# Altium schematic symbol library Arduino_Due.SCHLIB: 57 symbols
Pins are listed as number, name and electrical type; pins without a type are passive.

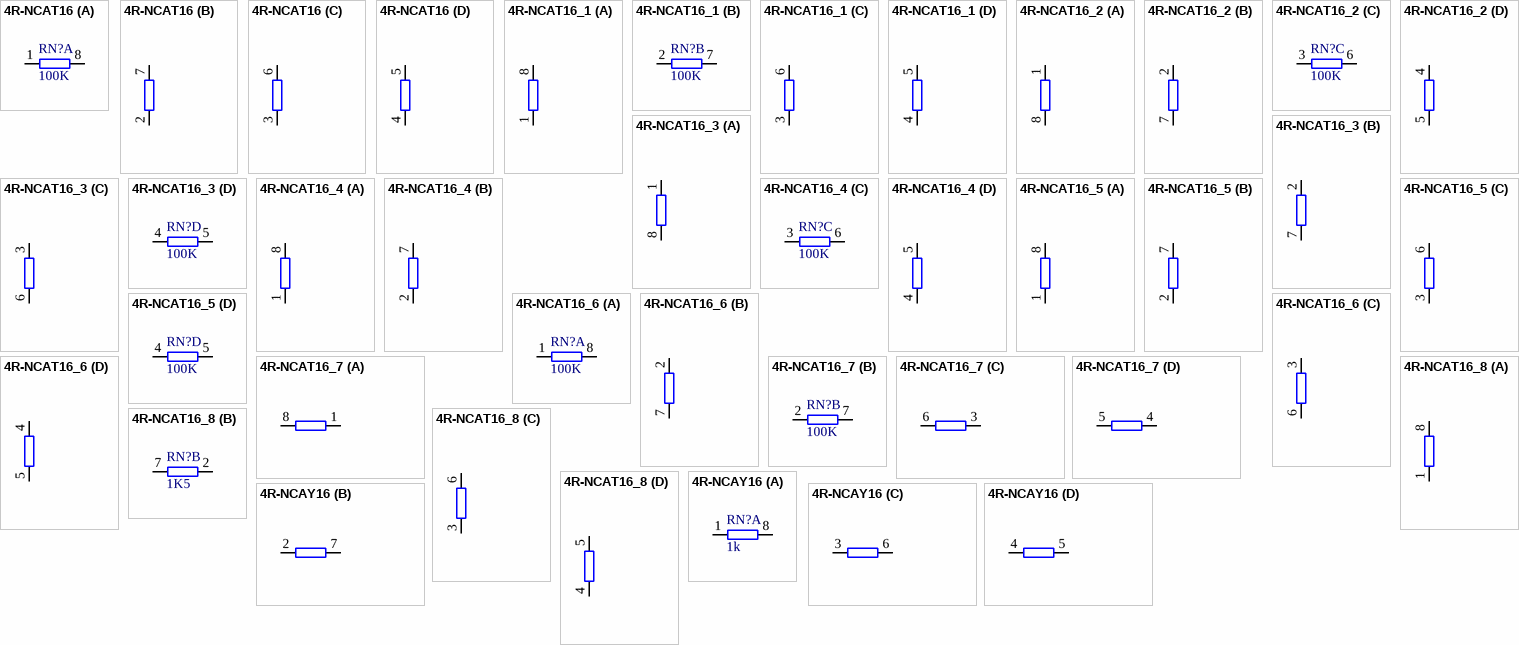
[diagram p0: symbols 4R-NCAT16 to 4R-NCAY16]

## 4R-NCAT16
designator RN?, comment 100K
footprint CAT16 (BOURNS Chip Resistor Array)
part A pins: 1, 8 2
part B pins: 2 1, 7 2
part C pins: 3 1, 6 2
part D pins: 4 1, 5 2

## 4R-NCAT16_1
designator RN?, comment 100K
footprint CAT16 (BOURNS Chip Resistor Array)
part A pins: 1, 8 2
part B pins: 2 1, 7 2
part C pins: 3 1, 6 2
part D pins: 4 1, 5 2

## 4R-NCAT16_2
designator RN?, comment 100K
footprint CAT16 (BOURNS Chip Resistor Array)
part A pins: 1, 8 2
part B pins: 2 1, 7 2
part C pins: 3 1, 6 2
part D pins: 4 1, 5 2

## 4R-NCAT16_3
designator RN?, comment 100K
footprint CAT16 (BOURNS Chip Resistor Array)
part A pins: 1, 8 2
part B pins: 2 1, 7 2
part C pins: 3 1, 6 2
part D pins: 4 1, 5 2

## 4R-NCAT16_4
designator RN?, comment 100K
footprint CAT16 (BOURNS Chip Resistor Array)
part A pins: 1, 8 2
part B pins: 2 1, 7 2
part C pins: 3 1, 6 2
part D pins: 4 1, 5 2

## 4R-NCAT16_5
designator RN?, comment 100K
footprint CAT16 (BOURNS Chip Resistor Array)
part A pins: 1, 8 2
part B pins: 2 1, 7 2
part C pins: 3 1, 6 2
part D pins: 4 1, 5 2

## 4R-NCAT16_6
designator RN?, comment 100K
footprint CAT16 (BOURNS Chip Resistor Array)
part A pins: 1, 8 2
part B pins: 2 1, 7 2
part C pins: 3 1, 6 2
part D pins: 4 1, 5 2

## 4R-NCAT16_7
designator RN?, comment 100K
footprint CAT16 (BOURNS Chip Resistor Array)
part A pins: 1, 8 2
part B pins: 2 1, 7 2
part C pins: 3 1, 6 2
part D pins: 4 1, 5 2

## 4R-NCAT16_8
designator RN?, comment 1K5
footprint CAT16 (BOURNS Chip Resistor Array)
part A pins: 1, 8 2
part B pins: 2 1, 7 2
part C pins: 3 1, 6 2
part D pins: 4 1, 5 2

## 4R-NCAY16
designator RN?, comment 1k
footprint CAY16 (BOURNS Chip Resistor Array)
part A pins: 1, 8 2
part B pins: 2 1, 7 2
part C pins: 3 1, 6 2
part D pins: 4 1, 5 2

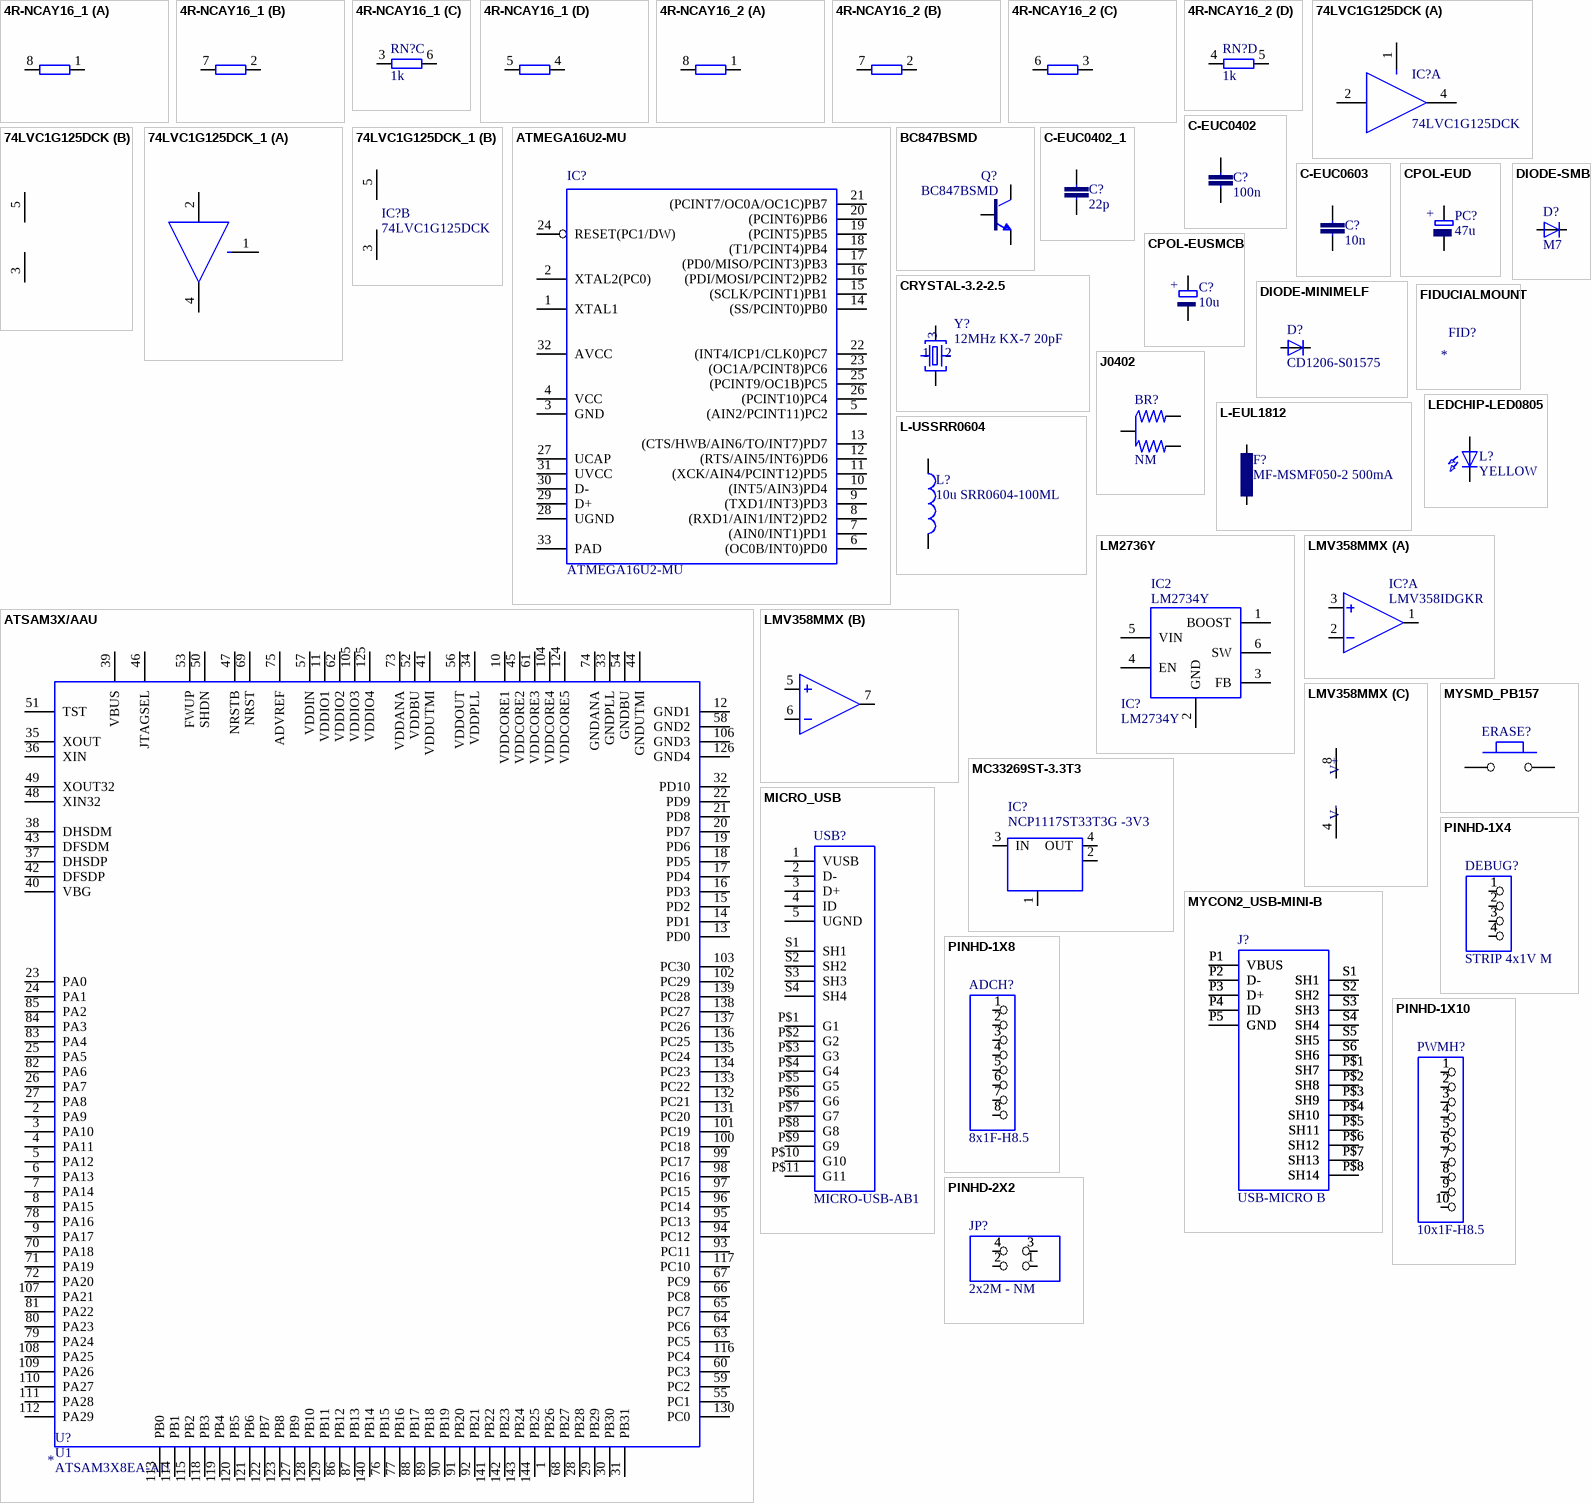
[diagram p1: symbols 4R-NCAY16_1 to PINHD-2X2]

## 4R-NCAY16_1
designator RN?, comment 1k
footprint CAY16 (BOURNS Chip Resistor Array)
part A pins: 1, 8 2
part B pins: 2 1, 7 2
part C pins: 3 1, 6 2
part D pins: 4 1, 5 2

## 4R-NCAY16_2
designator RN?, comment 1k
footprint CAY16 (BOURNS Chip Resistor Array)
part A pins: 1, 8 2
part B pins: 2 1, 7 2
part C pins: 3 1, 6 2
part D pins: 4 1, 5 2

## 74LVC1G125DCK
designator IC?
footprint SC70-5 (SMT SC70-5)
part A pins: 1 OE, 2 I, 4 O
part B pins: 3 GND, 5 VCC

## 74LVC1G125DCK_1
designator IC?, comment 74LVC1G125DCK
footprint SC70-5 (SMT SC70-5)
part A pins: 1 OE, 2 I, 4 O
part B pins: 3 GND, 5 VCC

## ATMEGA16U2-MU
designator IC?
footprint MLF32 (mlf-32)
pins: 1 XTAL1, 2 XTAL2(PC0), 3 GND, 4 VCC, 5 (AIN2/PCINT11)PC2, 6 (OC0B/INT0)PD0, 7 (AIN0/INT1)PD1, 8 (RXD1/AIN1/INT2)PD2, 9 (TXD1/INT3)PD3, 10 (INT5/AIN3)PD4, 11 (XCK/AIN4/PCINT12)PD5, 12 (RTS/AIN5/INT6)PD6, 13 (CTS/HWB/AIN6/TO/INT7)PD7, 14 (SS/PCINT0)PB0, 15 (SCLK/PCINT1)PB1, 16 (PDI/MOSI/PCINT2)PB2, 17 (PD0/MISO/PCINT3)PB3, 18 (T1/PCINT4)PB4, 19 (PCINT5)PB5, 20 (PCINT6)PB6, 21 (PCINT7/OC0A/OC1C)PB7, 22 (INT4/ICP1/CLK0)PC7, 23 (OC1A/PCINT8)PC6, 24 RESET(PC1/DW), 25 (PCINT9/OC1B)PC5, 26 (PCINT10)PC4, 27 UCAP, 28 UGND, 29 D+, 30 D-, 31 UVCC, 32 AVCC, 33 PAD

## ATSAM3X/AAU
designator U?
footprint LQFP144 (QFP144)
pins: 1 PB26, 2 PA9, 3 PA10, 4 PA11, 5 PA12, 6 PA13, 7 PA14, 8 PA15, 9 PA17, 10 VDDCORE1, 11 VDDIO1, 12 GND1, 13 PD0, 14 PD1, 15 PD2, 16 PD3, 17 PD4, 18 PD5, 19 PD6, 20 PD7, 21 PD8, 22 PD9, 23 PA0, 24 PA1, 25 PA5, 26 PA7, 27 PA8, 28 PB28, 29 PB29, 30 PB30, 31 PB31, 32 PD10, 33 GNDPLL, 34 VDDPLL, 35 XOUT, 36 XIN, 37 DHSDP, 38 DHSDM, 39 VBUS, 40 VBG, 41 VDDUTMI, 42 DFSDP, 43 DFSDM, 44 GNDUTMI, 45 VDDCORE2, 46 JTAGSEL, 47 NRSTB, 48 XIN32, 49 XOUT32, 50 SHDN, 51 TST, 52 VDDBU, 53 FWUP, 54 GNDBU, 55 PC1, 56 VDDOUT, 57 VDDIN, 58 GND2, 59 PC2, 60 PC3, 61 VDDCORE3, 62 VDDIO2, 63 PC5, 64 PC6, 65 PC7, 66 PC8, 67 PC9, 68 PB27, 69 NRST, 70 PA18, 71 PA19, 72 PA20, 73 VDDANA, 74 GNDANA, 75 ADVREF, 76 PB15, 77 PB16, 78 PA16, 79 PA24, 80 PA23, 81 PA22, 82 PA6, 83 PA4, 84 PA3, 85 PA2, 86 PB12, 87 PB13, 88 PB17, 89 PB18, 90 PB19, 91 PB20, 92 PB21, 93 PC11, 94 PC12, 95 PC13, 96 PC14, 97 PC15, 98 PC16, 99 PC17, 100 PC18, 101 PC19, 102 PC29, 103 PC30, 104 VDDCORE4, 105 VDDIO3, 106 GND3, 107 PA21, 108 PA25, 109 PA26, 110 PA27, 111 PA28, 112 PA29, 113 PB0, 114 PB1, 115 PB2, 116 PC4, 117 PC10, 118 PB3, 119 PB4, 120 PB5, 121 PB6, 122 PB7, 123 PB8, 124 VDDCORE5, 125 VDDIO4, 126 GND4, 127 PB9, 128 PB10, 129 PB11, 130 PC0, 131 PC20, 132 PC21, 133 PC22, 134 PC23, 135 PC24, 136 PC25, 137 PC26, 138 PC27, 139 PC28, 140 PB14, 141 PB22, 142 PB23, 143 PB24, 144 PB25
text: U1; ATSAM3X8EA-AU

## BC847BSMD
designator Q?
footprint SOT23 (SOT-23)
pins: 1 B, 2 E, 3 C

## C-EUC0402
designator C?, comment 100n
footprint C0402 (CAPACITOR)
pins: 1, 2

## C-EUC0402_1
designator C?, comment 22p
footprint C0402 (CAPACITOR)
pins: 1, 2

## C-EUC0603
designator C?, comment 10n
footprint C0603-ROUND (CAPACITOR)
pins: 1, 2

## CPOL-EUD
designator PC?, comment 47u
footprint PANASONIC_D (Panasonic Aluminium Electrolytic Capacitor VS-Serie Package D)
pins: +, -

## CPOL-EUSMCB
designator C?, comment 10u
footprint SMC_B (Chip Capacitor  Polar tantalum capacitors with solid electrolyte)
pins: +, -

## CRYSTAL-3.2-2.5
designator Y?, comment 12MHz KX-7 20pF
footprint CRYSTAL-3.2-2.5
pins: 1 C1, 2 GND@1, 3 C2, 4 GND@2

## DIODE-MINIMELF
designator D?, comment CD1206-S01575
footprint MINIMELF (Mini Melf Diode)
pins: A, C

## DIODE-SMB
designator D?, comment M7
footprint SMB
footprint CAPC2012X140N
footprint Model Name (Footprint not found)
footprint 0603
pins: A, C

## FIDUCIALMOUNT
designator FID?
footprint FIDUCIA-MOUNT

## J0402
designator BR?, comment NM
footprint J0402 (RESISTOR)
pins: 1, 2 C, 3 2

## L-EUL1812
designator F?, comment MF-MSMF050-2 500mA
footprint L1812 (INDUCTOR)
pins: 1, 2

## L-USSRR0604
designator L?, comment 10u SRR0604-100ML
footprint SRR0604
pins: P$1 1, P$2 2

## LEDCHIP-LED0805
designator L?, comment YELLOW
footprint CHIP-LED0805 (Hyper CHIPLED Hyper-Bright LED)
pins: A, C

## LM2736Y
designator IC?, comment LM2734Y
footprint SOT23-6 (Small Outline Transistor 6 lead)
pins: 1 BOOST, 2 GND, 3 FB, 4 EN, 5 VIN, 6 SW
text: IC2

## LMV358MMX
designator IC?, comment LMV358IDGKR
footprint MSOP08 (Mini Small Outline Package)
part A pins: 1 OUT, 2 -IN, 3 +IN
part B pins: 5 +IN, 6 -IN, 7 OUT
part C pins: 4 V-, 8 V+

## MC33269ST-3.3T3
designator IC?, comment NCP1117ST33T3G -3V3
footprint SOT223 (Small Outline Transistor)
pins: 1 GND/ADJ, 2 OUT@1, 3 IN, 4 OUT

## MICRO_USB
designator USB?, comment MICRO-USB-AB1
footprint MCR-AB1-S-RA-SMT
pins: 1 VUSB, 2 D-, 3 D+, 4 ID, 5 UGND, P$1 G1, P$2 G2, P$3 G3, P$4 G4, P$5 G5, P$6 G6, P$7 G7, P$8 G8, P$9 G9, P$10 G10, P$11 G11, S1 SH1, S2 SH2, S3 SH3, S4 SH4

## MYCON2_USB-MINI-B
designator J?, comment USB-MICRO B
footprint CON2_USB_MICRO_B_AT
pins: P1 VBUS, P1 VBUS, P1 VBUS, P2 D-, P2 D-, P2 D-, P3 D+, P3 D+, P3 D+, P4 ID, P4 ID, P4 ID, P5 GND, P5 GND, P5 GND, P$1 SH7, P$1 SH7, P$1 SH7, P$2 SH8, P$2 SH8, P$2 SH8, P$3 SH9, P$3 SH9, P$3 SH9, P$4 SH10, P$4 SH10, P$4 SH10, P$5 SH11, P$5 SH11, P$5 SH11, P$6 SH12, P$6 SH12, P$6 SH12, P$7 SH13, P$7 SH13, P$7 SH13, P$8 SH14, P$8 SH14, P$8 SH14, S1 SH1, S1 SH1, S1 SH1, S2 SH2, S2 SH2, S2 SH2, S3 SH3, S3 SH3, S3 SH3, S4 SH4, S4 SH4, S4 SH4, S5 SH5, S5 SH5, S5 SH5, S6 SH6, S6 SH6, S6 SH6

## MYSMD_PB157
designator ERASE?
footprint SMD_157SW
pins: 1, 2

## PINHD-1X4
designator DEBUG?, comment STRIP 4x1V M
footprint 1X04 (PIN HEADER)
pins: 1, 1, 2, 2, 3, 3, 4, 4

## PINHD-1X8
designator ADCH?, comment 8x1F-H8.5
footprint 1X08 (PIN HEADER)
pins: 1, 1, 2, 2, 3, 3, 4, 4, 5, 5, 6, 6, 7, 7, 8, 8

## PINHD-1X10
designator PWMH?, comment 10x1F-H8.5
footprint 1X10 (PIN HEADER)
pins: 1, 1, 1, 2, 2, 2, 3, 3, 3, 4, 4, 4, 5, 5, 5, 6, 6, 6, 7, 7, 7, 8, 8, 8, 9, 9, 9, 10, 10, 10

## PINHD-2X2
designator JP?, comment 2x2M - NM
footprint 2X02 (PIN HEADER)
pins: 1, 1, 2, 2, 3, 3, 4, 4

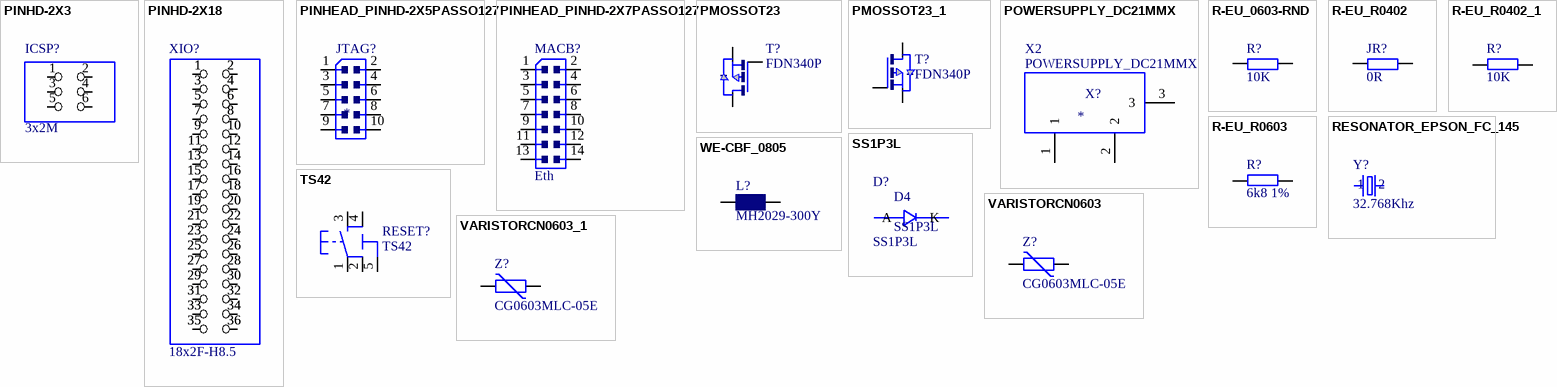
[diagram p2: symbols PINHD-2X3 to WE-CBF_0805]

## PINHD-2X3
designator ICSP?, comment 3x2M
footprint 2X03 (PIN HEADER)
pins: 1, 2, 3, 4, 5, 6

## PINHD-2X18
designator XIO?, comment 18x2F-H8.5
footprint 2X18 (PIN HEADER)
pins: 1, 1, 2, 2, 3, 3, 4, 4, 5, 5, 6, 6, 7, 7, 8, 8, 9, 9, 10, 10, 11, 11, 12, 12, 13, 13, 14, 14, 15, 15, 16, 16, 17, 17, 18, 18, 19, 19, 20, 20, 21, 21, 22, 22, 23, 23, 24, 24, 25, 25, 26, 26, 27, 27, 28, 28, 29, 29, 30, 30, 31, 31, 32, 32, 33, 33, 34, 34, 35, 35, 36, 36

## PINHEAD_PINHD-2X5PASSO127
designator JTAG?
footprint PINHEAD_2X05_127
pins: 1, 2, 3, 4, 5, 6, 7, 8, 9, 10

## PINHEAD_PINHD-2X7PASSO127
designator MACB?, comment Eth
footprint PINHEAD_2X07_127
pins: 1, 2, 3, 4, 5, 6, 7, 8, 9, 10, 11, 12 13, 13 12, 14

## PMOSSOT23
designator T?, comment FDN340P
footprint SOT-23 (Small Outline Transistor)
pins: 1 D, 2 S, 3 G

## PMOSSOT23_1
designator T?, comment FDN340P
footprint SOT-23 (Small Outline Transistor)
pins: 1 D, 2 S, 3 G

## POWERSUPPLY_DC21MMX
designator X?
footprint POWERSUPPLY_DC-21MM (DC 2.1mm Jack)
pins: 1, 2, 3
text: X2

## R-EU_0603-RND
designator R?, comment 10K
footprint R0603-ROUND (RESISTOR)
pins: 1, 2

## R-EU_R0402
designator JR?, comment 0R
footprint R0402 (RESISTOR)
pins: 1, 2

## R-EU_R0402_1
designator R?, comment 10K
footprint R0402 (RESISTOR)
pins: 1, 2

## R-EU_R0603
designator R?, comment 6k8 1%
footprint R0603-ROUND (RESISTOR)
pins: 1, 2

## RESONATOR_EPSON_FC_145
designator Y?, comment 32.768Khz
footprint RESONATOR_EPSON_FC_145
pins: P$1 1, P$2 2

## SS1P3L
designator D?
footprint DO220AAL
pins: P$1 K, P$2 A
text: D4

## TS42
designator RESET?
footprint TS42
pins: 1, 2, 3, 4, 5 5-GND

## VARISTORCN0603
designator Z?, comment CG0603MLC-05E
footprint CT/CN0603 (EPCOS SMD Varistors, MLV; Standard Series)
pins: 1, 2

## VARISTORCN0603_1
designator Z?, comment CG0603MLC-05E
footprint CT/CN0603 (EPCOS SMD Varistors, MLV; Standard Series)
pins: 1, 2

## WE-CBF_0805
designator L?, comment MH2029-300Y
footprint 0805 (Multilayer SMD)
pins: 1, 2